# Altium footprint library CONN-SMD-3P-256-V.PcbLib: 1 footprints
Each footprint in its own frame and in the unit in brackets; x right, y up, seen from the top. Pads: shape width x height; smd on the part's side, far side on the other; paste and mask are expansions set on the pad; w line width, h text height; cw(c..) or ccw(c..) is an arc to the next point about the centre after c.
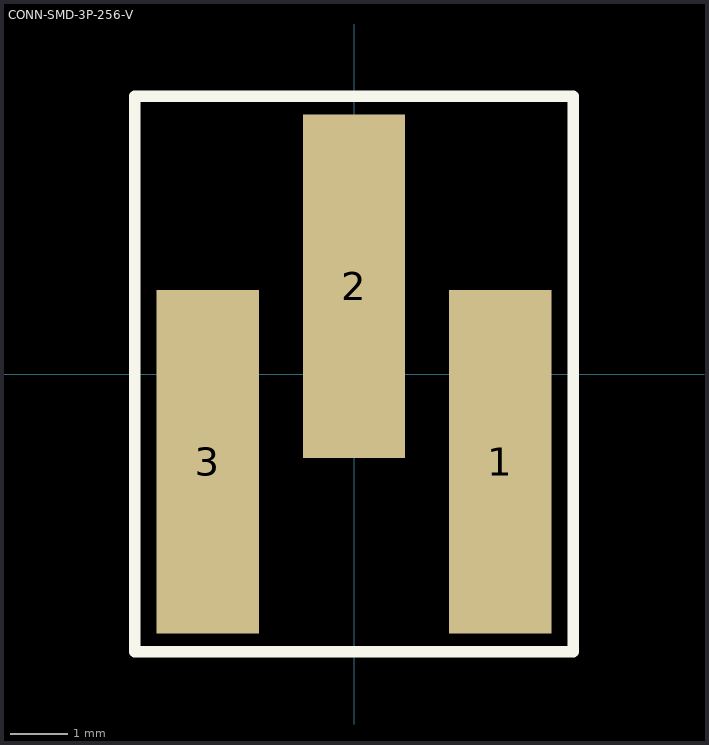
[diagram p0: the footprint, top view; thin cyan lines are the x and y axes]

## CONN-SMD-3P-256-V [mil]
pads (3):
  rect 70x235 smd: 1(100,-60) 2(0,60) 3(-100,-60)
Top Overlay:
  lines w7.87: -150,-190 150,-190 150,190 -150,190 -150,-190
3D body: height 413, standoff -2, extent -149.99,-166.99 150.01,151.26